# Altium footprint library BikeHUD.PcbLib: 6 footprints
Each footprint in its own frame and in the unit in brackets; x right, y up, seen from the top. Pads: shape width x height; smd on the part's side, far side on the other; paste and mask are expansions set on the pad; w line width, h text height; cw(c..) or ccw(c..) is an arc to the next point about the centre after c.
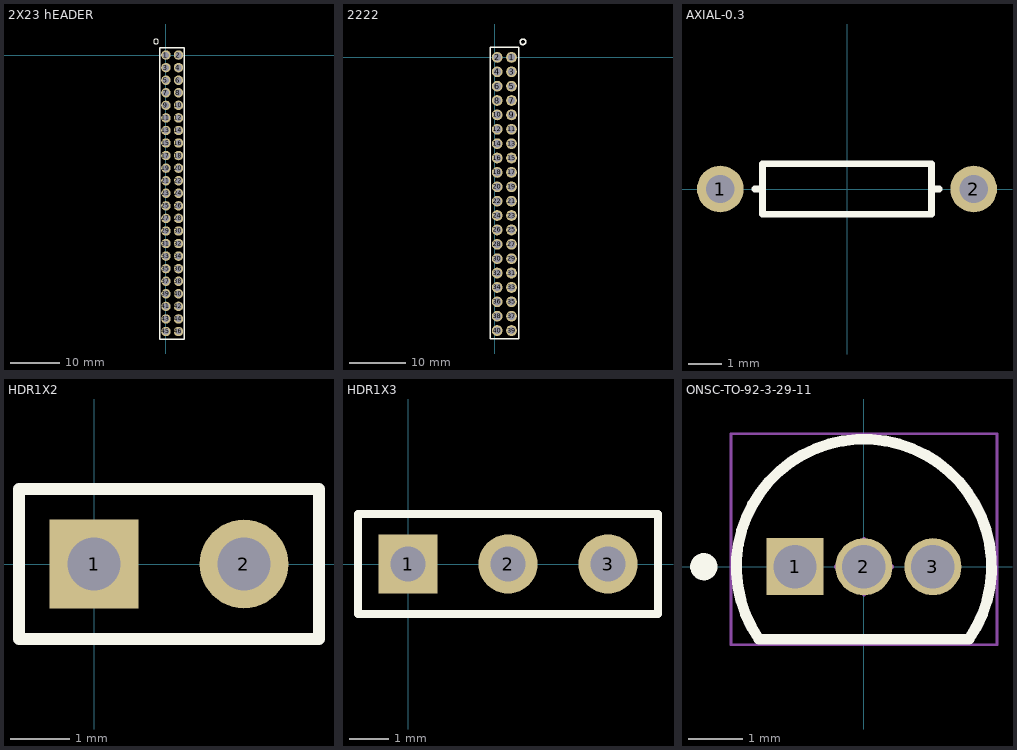
[diagram p0: the footprints below, top view; thin cyan lines are the x and y axes]

## 2X23 hEADER [mm]
pads (46):
  round 1.9 hole 1.3: 1(0,0) 2(2.54,0) 3(0,-2.54) 4(2.54,-2.54) 5(0,-5.08) 6(2.54,-5.08) 7(0,-7.62) 8(2.54,-7.62) 9(0,-10.16) 10(2.54,-10.16) 11(0,-12.7) 12(2.54,-12.7) 13(0,-15.24) 14(2.54,-15.24) 15(0,-17.78) 16(2.54,-17.78) 17(0,-20.32) 18(2.54,-20.32) 19(0,-22.86) 20(2.54,-22.86) 21(0,-25.4) 22(2.54,-25.4) 23(0,-27.94) 24(2.54,-27.94) 25(0,-30.48) 26(2.54,-30.48) 27(0,-33.02) 28(2.54,-33.02) 29(0,-35.56) 30(2.54,-35.56) 31(0,-38.1) 32(2.54,-38.1) 33(0,-40.64) 34(2.54,-40.64) 35(0,-43.18) 36(2.54,-43.18) 37(0,-45.72) 38(2.54,-45.72) 39(0,-48.26) 40(2.54,-48.26) 41(0,-50.8) 42(2.54,-50.8) 43(0,-53.34) 44(2.54,-53.34) 45(0,-55.88) 46(2.54,-55.88)
Top Overlay:
  circle w0.25: c-2,2.75 r0.5
  lines w0.254: -1.25,-57.4 -1.25,1.5 3.75,1.5 3.75,-57.4 -1.25,-57.4
3D body "SSW-123-01-G-D.stp": height 8.51, standoff -2.64, extent -1.177,-57.428 3.776,1.5

## 2222 [mm]
pads (40):
  round 1.9 hole 1.3: 1(3,0) 2(0.46,0) 3(3,-2.54) 4(0.46,-2.54) 5(3,-5.08) 6(0.46,-5.08) 7(3,-7.62) 8(0.46,-7.62) 9(3,-10.16) 10(0.46,-10.16) 11(3,-12.7) 12(0.46,-12.7) 13(3,-15.24) 14(0.46,-15.24) 15(3,-17.78) 16(0.46,-17.78) 17(3,-20.32) 18(0.46,-20.32) 19(3,-22.86) 20(0.46,-22.86) 21(3,-25.4) 22(0.46,-25.4) 23(3,-27.94) 24(0.46,-27.94) 25(3,-30.48) 26(0.46,-30.48) 27(3,-33.02) 28(0.46,-33.02) 29(3,-35.56) 30(0.46,-35.56) 31(3,-38.1) 32(0.46,-38.1) 33(3,-40.64) 34(0.46,-40.64) 35(3,-43.18) 36(0.46,-43.18) 37(3,-45.72) 38(0.46,-45.72) 39(3,-48.26) 40(0.46,-48.26)
Top Overlay:
  circle w0.25: c5,2.75 r0.5
  lines w0.254: -0.75,-49.75 4.25,-49.75 4.25,1.75 -0.75,1.75 -0.75,-49.75
3D body "40Pin.STEP": height 11.05, standoff -7, extent -0.7,-49.7 4.3,1.7

## AXIAL-0.3 [mm] "Axial Device, Thru-Hole; 2 Leads; 0.3 in Pin Spacing"
height 1.524
pads (2):
  round 1.4 hole 0.85: 1(-3.81,0) 2(3.81,0)
Top Overlay:
  lines w0.2: -2.769,0 -2.54,0 ; 2.769,0 2.54,0 ; 2.54,0 2.54,0.762 -2.54,0.762 -2.54,-0.762 2.54,-0.762 2.54,0

## HDR1X2 [mm] "Connector; Header; 2 Position"
pads (2):
  rect 1.5x1.5 hole 0.9: 1(0,0)
  round 1.5 hole 0.9: 2(2.54,0)
Top Overlay:
  lines w0.2: -1.27,-1.27 -1.27,1.27 3.81,1.27 3.81,-1.27 -1.27,-1.27

## HDR1X3 [mm] "Connector; Header; 3 Position"
pads (3):
  rect 1.5x1.5 hole 0.9: 1(0,0)
  round 1.5 hole 0.9: 2(2.54,0) 3(5.08,0)
Top Overlay:
  lines w0.2: -1.27,-1.27 -1.27,1.27 6.35,1.27 6.35,-1.27 -1.27,-1.27

## ONSC-TO-92-3-29-11 [mm] "TO, 3-Leads, Body Dia 4.7mm, Pitch 1.27mm"
height 7.87
pads (3):
  rect 1.05x1.05 hole 0.8: 1(-1.27,0)
  round 1.05 hole 0.8: 2(0,0) 3(1.27,0)
Top Overlay:
  circle w0.25: c-2.95,0 r0.125
  lines w0.2: -1.934,-1.335 cw(c0,0) 1.934,-1.335 -1.934,-1.335
Mechanical 13:
  lines w0.1: -1.934,-1.335 cw(c0,0) 1.934,-1.335 -1.934,-1.335
Mechanical 15:
  lines w0.05: -2.45,-1.435 -2.45,2.45 2.45,2.45 2.45,-1.435 -2.45,-1.435
  lines w0.1: -0.5,0 0.5,0 ; 0,-0.5 0,0.5
3D body: height 7.87, standoff 2.54, extent -2.349,-1.334 2.357,2.359